# EAGLE library part 1734592-8 (library 1734592-8)
Check availability <https://pricing.snapeda.com/parts/1734592-8/TE%20Connectivity/view-part?ref=eda>
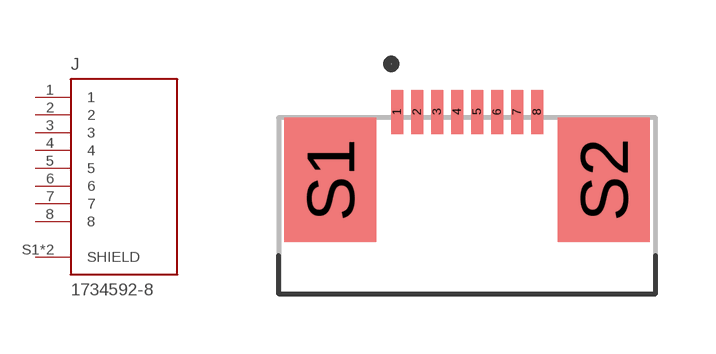
[diagram p0: symbol with the pads of TE_1734592-8; footprint TE_1734592-8]

Designator prefix J

## 1734592-8 (Availability: In Stock; Comment: 1734592-8; Description: 8 Position FPC Connector Contacts, Bottom 0.020 (0.50mm) Surface Mount, Right Angle; EU_RoHS_Compliance: Compliant; MF: TE Connectivity; MP: 1734592-8; Package: None; Price: None; Purchase-URL: https://pricing.snapeda.com/search?q=1734592-8&ref=eda)  [TE_1734592-8]
1  1  pas
2  2  pas
3  3  pas
4  4  pas
5  5  pas
6  6  pas
7  7  pas
8  8  pas
S1  SHIELD  pas
S2  SHIELD  pas

## Footprint TE_1734592-8 (pad centres in mm)
smd 0.3 x 1.1: 1 -1.75,0; 2 -1.25,0; 3 -0.75,0; 4 -0.25,0; 5 0.25,0; 6 0.75,0; 7 1.25,0; 8 1.75,0
smd 2.3 x 3.1: S1 -3.42,-1.7; S2 3.42,-1.7